# EAGLE library part A2542WV-06P (library MyLib)
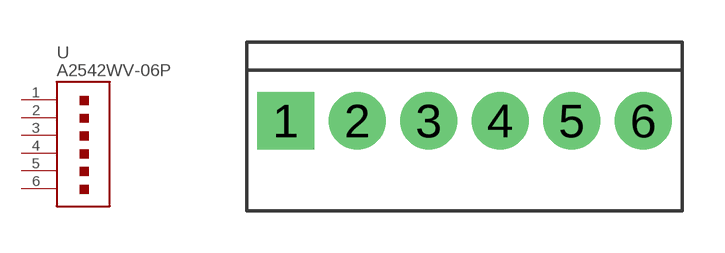
[diagram p2: symbol with the pads of A2542WV-06P; footprint A2542WV-06P]

Designator prefix -

## A2542WV-06P  [A2542WV-06P]
1  P$1
2  P$2
3  P$3
4  P$4
5  P$5
6  P$6

## Footprint A2542WV-06P (pad centres in mm)
drill 1 pad 2.027 square: 1 -6.35,0
drill 1 pad 2.027: 2 -3.81,0; 3 -1.27,0; 4 1.27,0; 5 3.81,0; 6 6.35,0